# Altium schematic symbol library PIC32CZ4010CA80208-I8MX.SchLib: 1 symbol
Pins are listed as number, name and electrical type; pins without a type are passive.

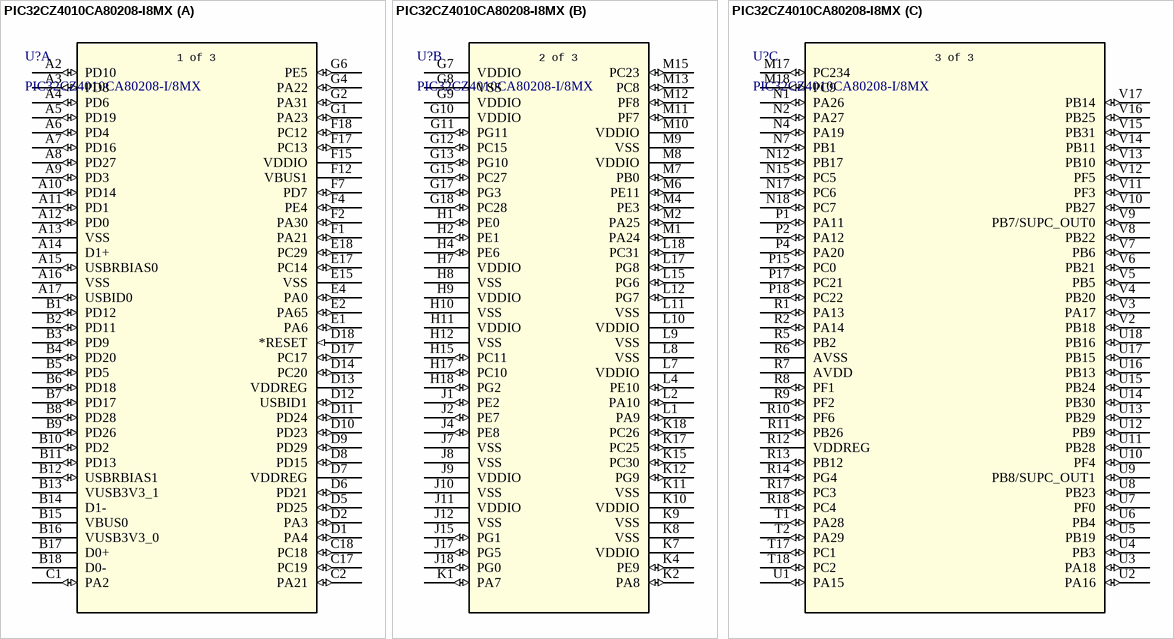
[diagram p0: symbol PIC32CZ4010CA80208-I8MX]

## PIC32CZ4010CA80208-I8MX
designator U?, comment PIC32CZ4010CA80208-I/8MX
Description; Manufacturer_Name: Microchip; Type: Clock, timing; Copyright: Copyright (C) 2025 Ultra Librarian. All rights reserved.; Manufacturer_Part_Number: PIC32CZ4010CA80208-I/8MX; RefDes: RefDes
footprint TFBGA208_8MX_MCH
part A pins: A2 PD10 (io), A3 PD8 (io), A4 PD6 (io), A5 PD19 (io), A6 PD4 (io), A7 PD16 (io), A8 PD27 (io), A9 PD3 (io), A10 PD14 (io), A11 PD1 (io), A12 PD0 (io), A13 VSS (power), A14 D1+, A15 USBRBIAS0 (io), A16 VSS (power), A17 USBID0 (io), B1 PD12 (io), B2 PD11 (io), B3 PD9 (io), B4 PD20 (io), B5 PD5 (io), B6 PD18 (io), B7 PD17 (io), B8 PD28 (io), B9 PD26 (io), B10 PD2 (io), B11 PD13 (io), B12 USBRBIAS1 (io), B13 VUSB3V3_1 (power), B14 D1-, B15 VBUS0 (power), B16 VUSB3V3_0 (power), B17 D0+, B18 D0-, C1 PA2 (io), C2 PA21 (io), C17 PC19 (io), C18 PC18 (io), D1 PA4 (io), D2 PA3 (io), D5 PD25 (io), D6 PD21 (io), D7 VDDREG (power), D8 PD15 (io), D9 PD29 (io), D10 PD23 (io), D11 PD24 (io), D12 USBID1 (io), D13 VDDREG (power), D14 PC20 (io), D17 PC17 (io), D18 *RESET (in), E1 PA6 (io), E2 PA65 (io), E4 PA0 (io), E15 VSS (power), E17 PC14 (io), E18 PC29 (io), F1 PA21 (io), F2 PA30 (io), F4 PE4 (io), F7 PD7 (io), F12 VBUS1 (power), F15 VDDIO (power), F17 PC13 (io), F18 PC12 (io), G1 PA23 (io), G2 PA31 (io), G4 PA22 (io), G6 PE5 (io)
part B pins: G7 VDDIO (power), G8 VSS (power), G9 VDDIO (power), G10 VDDIO (power), G11 PG11 (io), G12 PC15 (io), G13 PG10 (io), G15 PC27 (io), G17 PG3 (io), G18 PC28 (io), H1 PE0 (io), H2 PE1 (io), H4 PE6 (io), H7 VDDIO (power), H8 VSS (power), H9 VDDIO (power), H10 VSS (power), H11 VDDIO (power), H12 VSS (power), H15 PC11 (io), H17 PC10 (io), H18 PG2 (io), J1 PE2 (io), J2 PE7 (io), J4 PE8 (io), J7 VSS (power), J8 VSS (power), J9 VDDIO (power), J10 VSS (power), J11 VDDIO (power), J12 VSS (power), J15 PG1 (io), J17 PG5 (io), J18 PG0 (io), K1 PA7 (io), K2 PA8 (io), K4 PE9 (io), K7 VDDIO (power), K8 VSS (power), K9 VSS (power), K10 VDDIO (power), K11 VSS (power), K12 PG9 (io), K15 PC30 (io), K17 PC25 (io), K18 PC26 (io), L1 PA9 (io), L2 PA10 (io), L4 PE10 (io), L7 VDDIO (power), L8 VSS (power), L9 VSS (power), L10 VDDIO (power), L11 VSS (power), L12 PG7 (io), L15 PG6 (io), L17 PG8 (io), L18 PC31 (io), M1 PA24 (io), M2 PA25 (io), M4 PE3 (io), M6 PE11 (io), M7 PB0 (io), M8 VDDIO (power), M9 VSS (power), M10 VDDIO (power), M11 PF7 (io), M12 PF8 (io), M13 PC8 (io), M15 PC23 (io)
part C pins: M17 PC234 (io), M18 PC9 (io), N1 PA26 (io), N2 PA27 (io), N4 PA19 (io), N7 PB1 (io), N12 PB17 (io), N15 PC5 (io), N17 PC6 (io), N18 PC7 (io), P1 PA11 (io), P2 PA12 (io), P4 PA20 (io), P15 PC0 (io), P17 PC21 (io), P18 PC22 (io), R1 PA13 (io), R2 PA14 (io), R5 PB2 (io), R6 AVSS (power), R7 AVDD (power), R8 PF1 (io), R9 PF2 (io), R10 PF6 (io), R11 PB26 (io), R12 VDDREG (power), R13 PB12 (io), R14 PG4 (io), R17 PC3 (io), R18 PC4 (io), T1 PA28 (io), T2 PA29 (io), T17 PC1 (io), T18 PC2 (io), U1 PA15 (io), U2 PA16 (io), U3 PA18 (io), U4 PB3 (io), U5 PB19 (io), U6 PB4 (io), U7 PF0 (io), U8 PB23 (io), U9 PB8/SUPC_OUT1 (io), U10 PF4 (io), U11 PB28 (io), U12 PB9 (io), U13 PB29 (io), U14 PB30 (io), U15 PB24 (io), U16 PB13 (io), U17 PB15 (io), U18 PB16 (io), V2 PB18 (io), V3 PA17 (io), V4 PB20 (io), V5 PB5 (io), V6 PB21 (io), V7 PB6 (io), V8 PB22 (io), V9 PB7/SUPC_OUT0 (io), V10 PB27 (io), V11 PF3 (io), V12 PF5 (io), V13 PB10 (io), V14 PB11 (io), V15 PB31 (io), V16 PB25 (io), V17 PB14 (io)
part A text: 1 of 3
part B text: 2 of 3
part C text: 3 of 3